# Altium footprint library Devindia_v2.0.PcbLib: 105 footprints (part 6 of 7)
Each footprint in its own frame and in the unit in brackets; x right, y up, seen from the top. Pads: shape width x height; smd on the part's side, far side on the other; paste and mask are expansions set on the pad; w line width, h text height; cw(c..) or ccw(c..) is an arc to the next point about the centre after c.
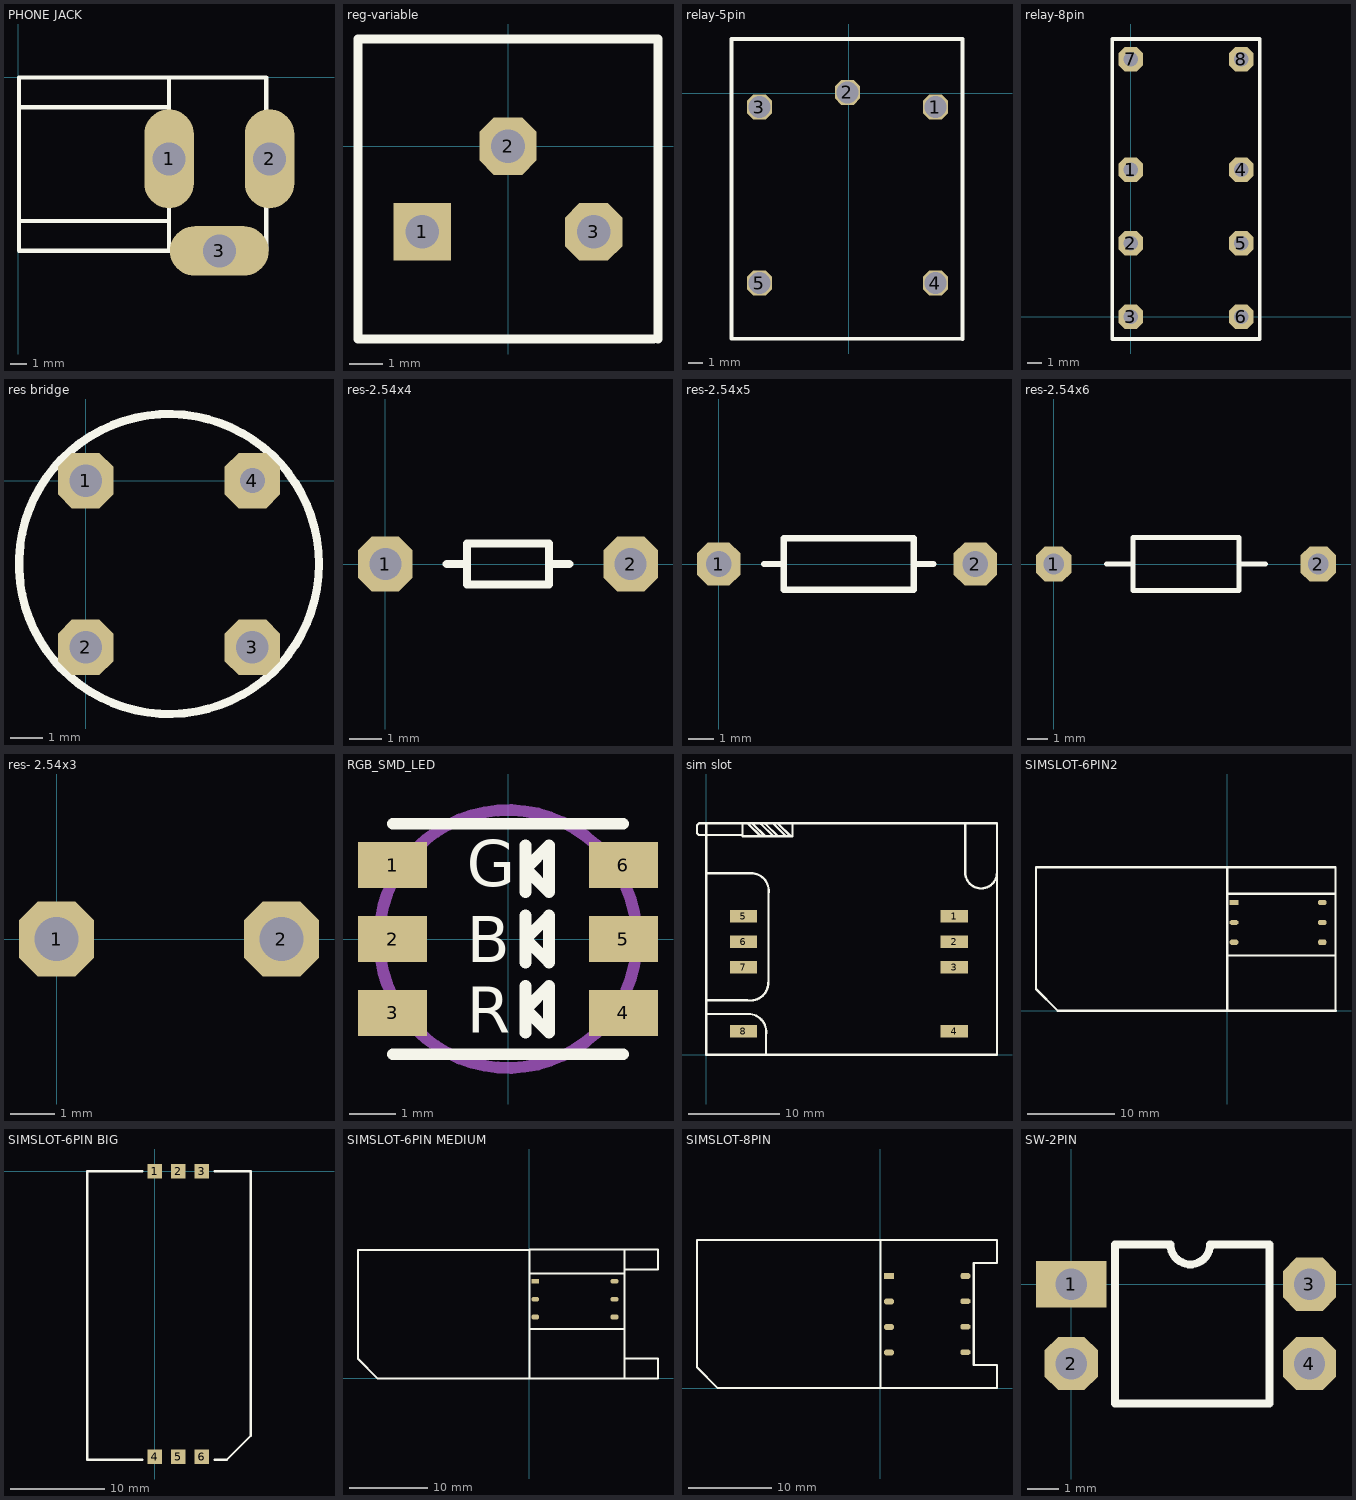
[diagram p5: the footprints below, top view; thin cyan lines are the x and y axes]

## PHONE JACK [mm]
pads (3):
  oval 3x6 hole 2: 1(9.144,-4.953) 2(15.24,-4.953)
  oval 6x3 hole 2: 3(12.192,-10.541)
Top Overlay:
  lines w0.254: 0.044,-8.729 9.144,-8.729 ; 0.044,-1.829 9.144,-1.829 ; 9.144,-10.529 9.144,-0.029 ; 0.044,-10.529 0.044,-0.029 15.044,-0.029 15.044,-10.529 0.044,-10.529
3D body: height 8.5, standoff 6.4, extent 0,-10.668 2.54,0
3D body: height 5.98, standoff 1, extent -0.03,-7.62 15.27,-2.63
3D body: height 6.5, standoff 1, extent 0,-10.668 16.776,-0.072
3D body: height 8.97, standoff 1, extent 2.552,-9.144 16.752,-1.16

## reg-variable [mm]
pads (3):
  rect 1.7x1.7 hole 1: 1(-2.54,-2.54)
  oct 1.7x1.7 hole 1: 2(0,0) 3(2.54,-2.54)
Top Overlay:
  lines w0.254: 4.318,-5.715 -4.445,-5.715 -4.445,3.175 4.445,3.175 4.445,-5.715
3D body: height 2, standoff 0, extent 2.032,-3.048 3.028,-2.05
3D body: height 2, standoff 0, extent -3.048,-3.039 -2.052,-2.041
3D body: height 2, standoff 0, extent -0.508,-0.508 0.488,0.49
3D body: height 5, standoff 2, extent -4.445,-5.715 4.445,3.175
3D body: height 5.01, standoff 5, extent -2.54,-3.81 2.45,1.17
3D body: height 5.1, standoff 4.9, extent -2.54,-1.905 2.419,-0.841

## relay-5pin [mm]
pads (5):
  oct 1.7x1.7 hole 1.5: 1(5.904,-0.954) 2(-0.096,0.046) 3(-6.096,-0.954) 4(5.904,-12.954) 5(-6.096,-12.954)
Top Overlay:
  lines w0.254: -8.001,3.556 -8.001,1.238 -8.001,-16.739 7.747,-16.739 ; -8.001,3.683 7.747,3.683 7.747,1.905 ; 7.747,-16.764 7.747,-14.732 ; 7.747,-14.674 7.747,1.956
3D body: height 17, standoff 2, extent -8.001,-16.764 7.874,5.016
3D body: height 17.2, standoff 17, extent -6.457,2.685 -5.461,3.683

## relay-8pin [mm]
pads (8):
  oct 1.7x1.7 hole 1: 1(0,10.16) 2(0,5.08) 3(0,0) 4(7.62,10.16) 5(7.62,5.08) 6(7.62,0) 7(0,17.78) 8(7.62,17.78)
Top Overlay:
  lines w0.254: -1.27,-1.524 8.89,-1.524 8.89,11.43 8.89,19.177 -1.27,19.177 -1.27,11.43 -1.27,-0.635 -1.27,-1.524
3D body: height 12.25, standoff 0, extent -1.27,-1.651 8.763,19.05
3D body: height 12.75, standoff 12.25, extent -0.381,17.272 0.615,18.27

## res bridge [mm]
pads (4):
  oct 1.7x1.7 hole 1: 1(0,0) 2(0,-5.08) 3(5.08,-5.08)
  oct 1.7x1.7 hole 0.762: 4(5.08,0)
Top Overlay:
  circle w0.254: c2.54,-2.54 r4.572
3D body: height 5.5, standoff 0.5, extent -2.032,-7.112 7.072,2.01

## res-2.54x4 [mm]
pads (2):
  oct 1.7x1.7 hole 1: 1(0,0) 2(7.62,0)
Top Overlay:
  lines w0.254: 1.905,0 2.54,0 ; 5.08,0 5.715,0 ; 2.54,-0.635 5.08,-0.635 5.08,0.635 2.54,0.635 2.54,-0.635
3D body: height 2, standoff 0, extent 7.112,-0.508 8.11,0.488
3D body: height 2, standoff 0, extent -0.508,-0.508 0.49,0.488
3D body: height 3, standoff 1, extent 0.5,-0.976 7.12,1.016
3D body: height 2.5, standoff 1.5, extent 7.112,-0.498 8.107,0.498
3D body: height 2.5, standoff 1.5, extent -0.508,-0.498 0.487,0.498
3D body: height 2.5, standoff 1.5, extent 0.008,-0.488 0.508,0.508
3D body: height 2.5, standoff 1.5, extent 7.112,-0.498 7.612,0.498

## res-2.54x5 [mm]
pads (2):
  oct 1.7x1.7 hole 1: 1(0,0) 2(10.033,0)
Top Overlay:
  lines w0.254: 1.778,0 2.54,0 ; 7.62,0 8.382,0 ; 2.54,-1.016 7.62,-1.016 7.62,1.016 2.54,1.016 2.54,-1.016
3D body: height 2.5, standoff 1.5, extent 9.525,-0.498 10.52,0.498
3D body: height 2.5, standoff 1.5, extent -0.487,-0.498 0.508,0.498
3D body: height 2, standoff 0, extent 9.534,-0.508 10.532,0.488
3D body: height 2, standoff 0, extent -0.508,-0.508 0.49,0.488
3D body: height 3, standoff 1, extent 1.762,-0.996 8.382,0.996
3D body: height 2.5, standoff 1.5, extent -0.011,-0.508 1.789,0.488
3D body: height 2.5, standoff 1.5, extent 8.382,-0.498 10.182,0.498

## res-2.54x6 [mm]
pads (2):
  oct 1.7x1.7 hole 1: 1(0,0) 2(12.7,0)
Top Overlay:
  lines w0.254: 2.54,0 3.81,0 ; 8.89,0 10.16,0 ; 3.81,-1.27 3.81,1.27 8.89,1.27 8.89,-1.27 3.81,-1.27
3D body: height 2.5, standoff 1.5, extent 12.192,-0.498 13.187,0.498
3D body: height 2.5, standoff 1.5, extent -0.487,-0.498 0.508,0.498
3D body: height 2.5, standoff 1.5, extent 9.652,-0.508 12.692,0.488
3D body: height 2.5, standoff 1.5, extent 0.008,-0.508 3.048,0.488
3D body: height 2, standoff 0, extent 12.192,-0.508 13.19,0.488
3D body: height 2, standoff 0, extent -0.508,-0.508 0.49,0.488
3D body: height 3, standoff 1, extent 3.048,-0.996 9.668,0.996

## res- 2.54x3 [mm]
pads (2):
  oct 1.7x1.7 hole 1: 1(0,0) 2(5.08,0)
3D body: height 2.5, standoff 1.5, extent 4.572,-0.498 5.567,0.498
3D body: height 2.5, standoff 1.5, extent 4.572,-0.498 5.072,0.498
3D body: height 2.5, standoff 1.5, extent 0.008,-0.488 0.508,0.508
3D body: height 2, standoff 0, extent 4.572,-0.508 5.57,0.488
3D body: height 2, standoff 0, extent -0.508,-0.508 0.49,0.488
3D body: height 3, standoff 1, extent 0.254,-0.976 4.754,1.016
3D body: height 2.5, standoff 1.5, extent -0.508,-0.498 0.487,0.498

## RGB_SMD_LED [mm]
pads (6):
  rect 1.5x1 all layers, no hole: 1(-2.5,1.6) 2(-2.5,0) 3(-2.5,-1.6) 4(2.5,-1.6) 5(2.5,0) 6(2.5,1.6)
Top Overlay:
  lines w0.254: -2.5,-2.5 2.5,-2.5 ; -2.5,2.5 2.5,2.5 ; 0.381,-2.032 0.381,-1.016 0.381,-1.524 ; 0.381,-0.508 0.381,0.508 0.381,0 ; 0.381,1.016 0.381,2.032 0.381,1.524 ; 0.381,-1.524 0.889,-2.032 0.889,-1.016 0.381,-1.524 ; 0.381,0 0.889,-0.508 0.889,0.508 0.381,0 ; 0.381,1.524 0.889,1.016 0.889,2.032 0.381,1.524
  text "R" at -0.889,-2.032 h1
  text "B" at -0.889,-0.508 h1
  text "G" at -0.889,1.143 h1
Mechanical 1:
  circle w0.254: c0,0 r2.794
3D body: height 1.7, standoff 1.68, extent -2.286,-2.794 -0.254,-1.27
3D body: height 1.7, standoff 1.68, extent -0.889,-0.889 2.667,0.889
3D body: height 1.7, standoff 1.68, extent -2.794,-0.381 -1.524,0.381
3D body: height 0.2, standoff 0, extent 1.825,1.27 3.095,1.905
3D body: height 0.2, standoff 0, extent 1.825,-0.33 3.095,0.305
3D body: height 0.2, standoff 0, extent 1.825,-1.93 3.095,-1.295
3D body: height 0.2, standoff 0, extent -3.175,-1.93 -1.905,-1.295
3D body: height 0.2, standoff 0, extent -3.175,-0.33 -1.905,0.305
3D body: height 0.2, standoff 0, extent -3.175,1.27 -1.905,1.905
3D body: height 1.68, standoff 0.2, extent -3.429,-3.175 3.429,3.175
3D body: height 1.7, standoff 1.68, extent -2.286,1.27 -0.254,2.794
3D body: height 1.7, standoff 1.68, extent 0.254,0.762 2.159,2.794
3D body: height 1.7, standoff 1.68, extent 0.381,-2.794 2.159,-0.762

## sim slot [mm]
pads (8):
  rect 3x1.4 smd: 1(27.3,15.25) 2(27.3,12.45) 3(27.3,9.65) 4(27.3,2.6) 5(4.1,15.25) 6(4.1,12.45) 7(4.1,9.65) 8(4.1,2.6)
Top Overlay:
  lines w0.254: 0,6 4.5,6 ccw(c4.844,7.954) 6.828,7.954 6.828,7.777 6.858,7.747 6.858,17.672 ccw(c4.904,18.016) 4.904,20 0,20 ; 0.127,4.5 4.627,4.5 cw(c4.627,2.516) 6.581,2.172 6.581,0.023 6.604,0 ; 3.937,25.5 4,25.437 4,24.073 9.5,24.073 9.5,25.398 9.398,25.5 ; 4,24.2 0,24.2 -0.578,24.2 -0.832,24.2 -1.016,24.384 -1.016,24.638 -1.016,25.273 -0.789,25.5 -0.608,25.5 0,25.5 ; 4.599,25.443 5.969,24.073 ; 4.699,25.5 4.726,25.5 ; 5.107,25.443 6.477,24.073 ; 5.996,25.443 7.366,24.073 ; 6.096,24.073 6.096,24.13 ; 6.504,25.443 7.874,24.073 ; 7.393,25.443 8.763,24.073 ; 7.901,25.443 9.271,24.073 ; 28.5,20 28.5,25.5 ; 28.5,20.066 ccw(c30.25,20.066) 32,20.066 ; 0,25.5 0,0 32,0 32,25.5 0,25.5

## SIMSLOT-6PIN2 [mm]
pads (6):
  rect 1x0.6 smd: 1(0.762,12.446)
  oct 1x0.6 smd: 2(0.762,10.16) 3(0.762,7.874) 4(10.922,12.446) 5(10.922,10.16) 6(10.922,7.874)
Top Overlay:
  lines w0.254: 0,6.35 12.442,6.35 ; 0,13.462 12.442,13.462 ; 12.442,0 12.442,15.5 12.442,16.51 0,16.51 ; 12.5,0 0,0 ; 0,0 0,16.51 ; 0,0 -19.5,0 -22,2.5 -22,16.5 -0.01,16.5 0,16.51
3D body: height 2.01, standoff 0, extent 2.54,0 9.25,16.51
3D body: height 2, standoff 0, extent 0,0 12.442,16.51

## SIMSLOT-6PIN BIG [mil]
pads (6):
  rect 60x60 all layers, no hole: 1(0,0) 2(98.43,0) 3(196.85,0) 4(0,-1187.4) 5(98.43,-1187.4) 6(196.85,-1187.4)
Top Overlay:
  lines w10: -50,-1200 -280,-1200 -280,0 -50,0 ; 250,-1200 300,-1200 400,-1100 400,0 250,0
3D body: height 145.67, standoff 78.74, extent -50,-375 -30,-305
3D body: height 78.74, standoff 19.68, extent -107.48,-770 207.48,-612.83
3D body: height 78.74, standoff 19.68, extent -107.48,-410 207.48,-252.83
3D body: height 137.8, standoff 78.74, extent -280,-1030 400,-130
3D body: height 118.11, standoff 39.37, extent -280,-1200 400,0

## SIMSLOT-6PIN MEDIUM [mm]
pads (6):
  rect 1x0.6 smd: 1(0.762,12.446)
  oct 1x0.6 smd: 2(0.762,10.16) 3(0.762,7.874) 4(10.922,12.446) 5(10.922,10.16) 6(10.922,7.874)
Top Overlay:
  lines w0.254: 0,6.35 12.192,6.35 ; 0,13.462 12.192,13.462 ; 12.192,13.97 16.51,13.97 16.51,16.51 0,16.51 ; 12.192,16.51 12.192,13.462 ; 0,0 -19.5,0 -22,2.5 -22,16.5 -0.01,16.5 0,16.51 ; 0,0 16.51,0 16.51,2.54 12.192,2.54 12.192,0 12.192,6.35 ; 0,0 0,16.51 ; 12.192,6.35 12.192,13.462
3D body: height 2, standoff 0, extent 0,0 16.51,16.51
3D body: height 2.01, standoff 0, extent 2.54,0 7.62,16.51

## SIMSLOT-8PIN [mm]
pads (8):
  rect 1.2x0.7 smd: 1(1.016,13.462)
  oct 1.2x0.7 smd: 2(1.016,10.402) 3(1.016,7.342) 4(1.016,4.282) 5(10.166,13.462) 6(10.166,10.412) 7(10.166,7.362) 8(10.166,4.312)
Top Overlay:
  lines w0.254: -0.01,17.78 -22,17.78 -22,2.5 -19.5,0 0,0 ; 0,0 0,17.78 13.97,17.78 13.97,14.986 11.176,14.986 11.176,2.794 13.97,2.794 13.97,0 0,0
3D body: height 2.01, standoff 0, extent 2.286,0 8.636,17.78
3D body: height 2, standoff 0, extent 0,0 13.97,17.78

## SW-2PIN [mm]
pads (4):
  rect 2.25x1.5 hole 1: 1(0,0)
  oct 1.7x1.7 hole 1: 2(0,-2.54) 3(7.62,0) 4(7.62,-2.54)
Top Overlay:
  lines w0.254: 1.397,-3.81 6.35,-3.81 6.35,1.27 4.445,1.27 cw(c3.81,1.27) 3.175,1.27 1.397,1.27 1.397,-3.81
3D body: height 3, standoff 0, extent 1.27,-3.81 6.35,1.27
3D body: height 4, standoff 1, extent 2.794,-0.762 4.826,0
3D body: height 4, standoff 1, extent 2.794,-3.048 4.826,-2.286
3D body: height 4.5, standoff 4, extent 3.429,-0.508 4.191,-0.254
3D body: height 4.5, standoff 4, extent 3.429,-2.794 4.191,-2.54